# EAGLE library part LT3478 (library PowerProducts)
LT-Spice library generated with : ltspice.ulp from: E:/Programme/LTC/LTspiceIV/lib/sym/PowerProducts/LT3479*.asy at 05.10.2012 11:17:19
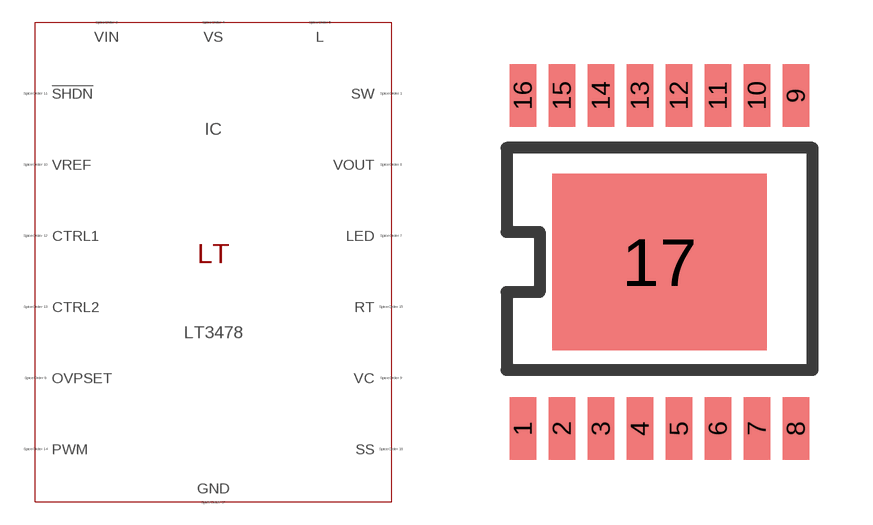
[diagram p43: symbol with the pads of TSSOP16BC(FE); footprint TSSOP16BC(FE)]

Designator prefix IC

## LT3478 (SPICEMODEL: LT1762.lib; SPICEPREFIX: X; VALUE2: LT1762)  [TSSOP16BC(FE)]
1  SW  pas
2  SW  pas
3  VIN  pas
4  VS  pas
5  L  pas
6  VOUT  pas
7  LED  pas
8  OVPSET  pas
9  VC  pas
10  VREF  pas
11  !SHDN  pas
12  CTRL1  pas
13  CTRL2  pas
14  PWM  pas
15  RT  pas
16  SS  pas
17  GND  pas

## Footprint TSSOP16BC(FE) (pad centres in mm)
Package generated from: TSSOP16BC(FE).asc (!PADS-POWERPCB-V5.0-BASIC! DESIGN DATABASE ASCII FILE 1.0) with :import-pads-powerpcb-v5.ulp Version 1.0.1 at 04.10.2012 14:11:39
smd 0.66 x 1.575: 1 -3.413,-4.162; 2 -2.438,-4.162; 3 -1.462,-4.162; 4 -0.487,-4.162; 5 0.487,-4.162; 6 1.462,-4.162; 7 2.438,-4.162; 8 3.413,-4.162; 9 3.413,4.162; 10 2.438,4.162; 11 1.462,4.162; 12 0.487,4.162; 13 -0.487,4.162; 14 -1.462,4.162; 15 -2.438,4.162; 16 -3.413,4.162
smd 5.37 x 4.41: 17 0,0